# Altium schematic symbol library LightPipeRB1.SchLib: 1 symbol
Pins are listed as number, name and electrical type; pins without a type are passive.

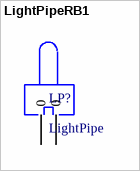
[diagram p0: symbol LightPipeRB1]

## LightPipeRB1
designator LP?, comment LightPipe
pins: 0, 0